# EAGLE library part LM339PWR (library LM339PWR)
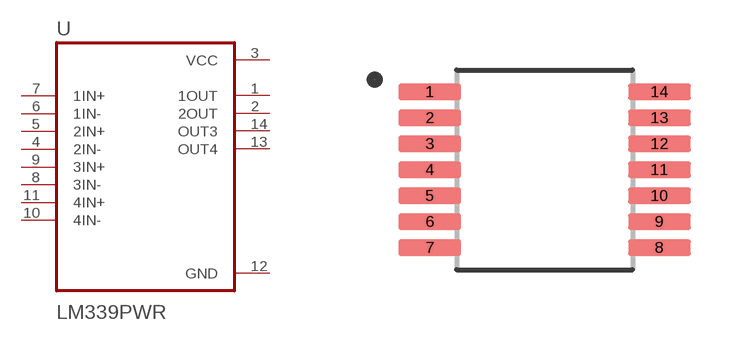
[diagram p0: symbol with the pads of SOP65P640X120-14N; footprint SOP65P640X120-14N]

Designator prefix U

## LM339PWR (Description: Quad differential comparator 14-TSSOP 0 to 70; MF: Texas Instruments; MP: LM339PWR; Package: TSSOP-14 Texas Instruments; Purchase-URL: https://pricing.snapeda.com/search/part/LM339PWR/?ref=eda)  [SOP65P640X120-14N]
1  1OUT  out
2  2OUT  out
3  VCC  pwr
4  2IN-  in
5  2IN+  in
6  1IN-  in
7  1IN+  in
8  3IN-  in
9  3IN+  in
10  4IN-  in
11  4IN+  in
12  GND  pwr
13  OUT4  out
14  OUT3  out

## Footprint SOP65P640X120-14N (pad centres in mm)
smd 1.57 x 0.41: 1 -2.87,1.95; 2 -2.87,1.3; 3 -2.87,0.65; 4 -2.87,0; 5 -2.87,-0.65; 6 -2.87,-1.3; 7 -2.87,-1.95; 8 2.87,-1.95; 9 2.87,-1.3; 10 2.87,-0.65; 11 2.87,0; 12 2.87,0.65; 13 2.87,1.3; 14 2.87,1.95